# EAGLE library part 74HC4050 (library 74_Logic_Series)
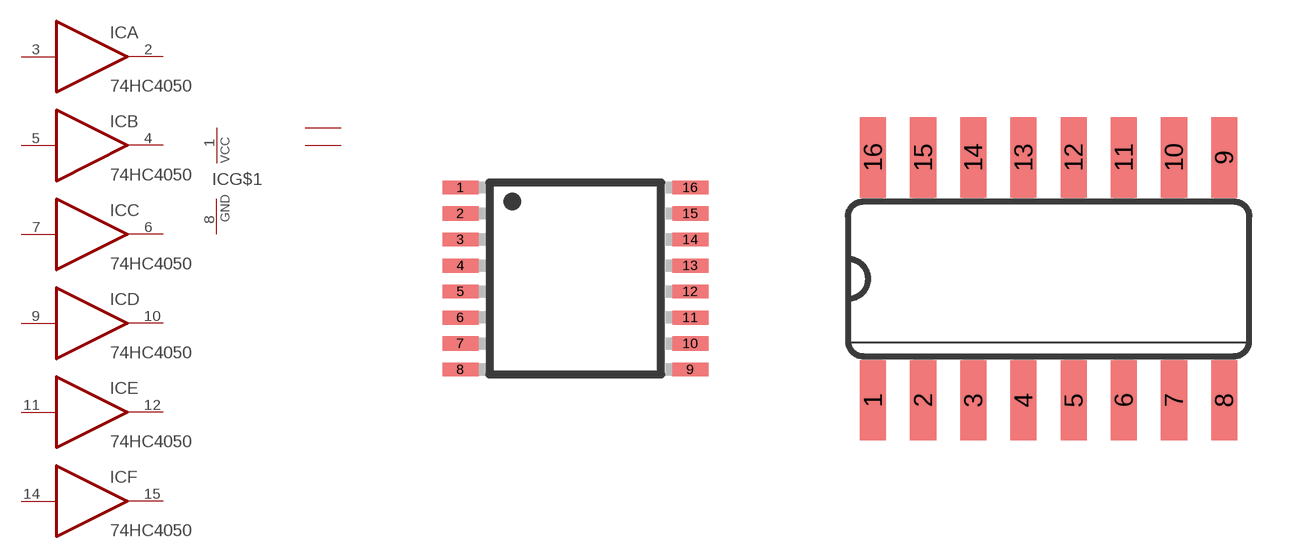
[diagram p0: symbol with the pads of TSSOP16; footprints TSSOP16, SO16]

Designator prefix IC; gates A=BUFFER B=BUFFER C=BUFFER D=BUFFER E=BUFFER F=BUFFER G$1=PWRN G$2=NC G$3=NC

## 74HC4050W  [TSSOP16]
1  G$1:VCC  pwr
2  A:O  out
3  A:I
4  B:O  out
5  B:I
6  C:O  out
7  C:I
8  G$1:GND  pwr
9  D:I
10  D:O  out
11  E:I
12  E:O  out
13  G$2:P$1  nc
14  F:I
15  F:O  out
16  G$3:P$1  nc

## 74HC4050M  [SO16]
Pads as for TSSOP16

## 74HC4050E  [DIL16]
Pads as for TSSOP16

## Footprint TSSOP16 (pad centres in mm)
16-Lead Thin Shrink Small Outline Package [TSSOP] (RU-16) Source: 8x ADG1408_1409.pdf
smd 0.9 x 0.35: 1 -2.875,2.275; 2 -2.875,1.625; 3 -2.875,0.975; 4 -2.875,0.325; 5 -2.875,-0.325; 6 -2.875,-0.975; 7 -2.875,-1.625; 8 -2.875,-2.275; 9 2.875,-2.275; 10 2.875,-1.625; 11 2.875,-0.975; 12 2.875,-0.325; 13 2.875,0.325; 14 2.875,0.975; 15 2.875,1.625; 16 2.875,2.275

## Footprint SO16 (pad centres in mm)
Small Outline package 150 mil
smd 0.66 x 2.032: 1 -4.445,-3.073; 2 -3.175,-3.073; 3 -1.905,-3.073; 4 -0.635,-3.073; 5 0.635,-3.073; 6 1.905,-3.073; 7 3.175,-3.073; 8 4.445,-3.073; 9 4.445,3.073; 10 3.175,3.073; 11 1.905,3.073; 12 0.635,3.073; 13 -0.635,3.073; 14 -1.905,3.073; 15 -3.175,3.073; 16 -4.445,3.073

## Footprint DIL16 (pad centres in mm)
Dual In Line Package
drill 0.813 long: 1 -8.89,-3.81; 2 -6.35,-3.81; 3 -3.81,-3.81; 4 -1.27,-3.81; 5 1.27,-3.81; 6 3.81,-3.81; 7 6.35,-3.81; 8 8.89,-3.81; 9 8.89,3.81; 10 6.35,3.81; 11 3.81,3.81; 12 1.27,3.81; 13 -1.27,3.81; 14 -3.81,3.81; 15 -6.35,3.81; 16 -8.89,3.81